# EAGLE library part 51415-001LF (library XF2M-4015-1A)
FCI PwrBlade Series, Series Number 51415, 2.54mm Pitch 2 (Power), 24 (Signal) Way 1 (Power), 4 (Signal) Row Right Angle Source: Datasheet <https://componentsearchengine.com/Datasheets/1/51415-001LF.pdf>
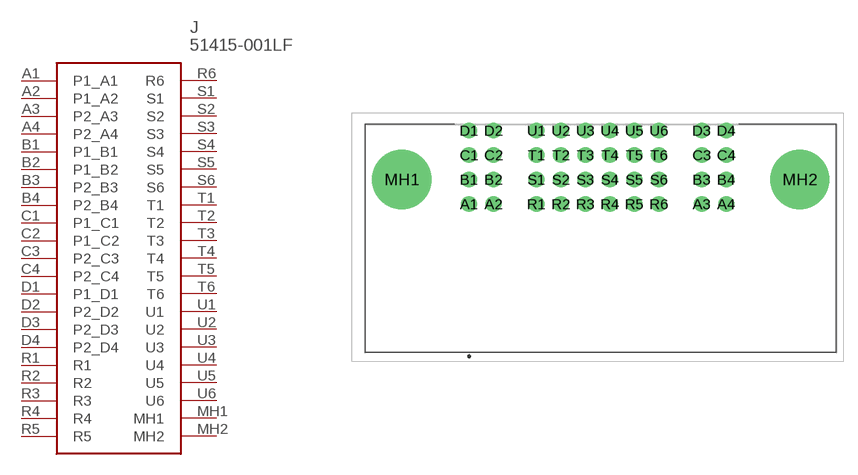
[diagram p1: symbol with the pads of 51415001LF; footprint 51415001LF]

Designator prefix J

## 51415-001LF (Description: FCI PwrBlade Series, Series Number 51415, 2.54mm Pitch 2 (Power), 24 (Signal) Way 1 (Power), 4 (Signal) Row Right Angle; Height: 14.58mm; Manufacturer_Name: Amphenol; Manufacturer_Part_Number: 51415-001LF; Mouser_Part_Number: 649-51415-001LF; Mouser_Price-Stock: https://www.mouser.com/Search/Refine.aspx?Keyword=649-51415-001LF)  [51415001LF]
A1  P1_A1
A2  P1_A2
A3  P2_A3
A4  P2_A4
B1  P1_B1
B2  P1_B2
B3  P2_B3
B4  P2_B4
C1  P1_C1
C2  P1_C2
C3  P2_C3
C4  P2_C4
D1  P1_D1
D2  P2_D2
D3  P2_D3
D4  P2_D4
MH1  MH1
MH2  MH2
R1  R1
R2  R2
R3  R3
R4  R4
R5  R5
R6  R6
S1  S1
S2  S2
S3  S3
S4  S4
S5  S5
S6  S6
T1  T1
T2  T2
T3  T3
T4  T4
T5  T5
T6  T6
U1  U1
U2  U2
U3  U3
U4  U4
U5  U5
U6  U6

## Footprint 51415001LF (pad centres in mm)
51415-001LF-3_1
drill 1.09 pad 1.635: A1 -13.65,0; A2 -11.11,0; A3 10.48,0; A4 13.02,0; B1 -13.65,2.54; B2 -11.11,2.54; B3 10.48,2.54; B4 13.02,2.54; C1 -13.65,5.08; C2 -11.11,5.08; C3 10.48,5.08; C4 13.02,5.08; D1 -13.65,7.62; D2 -11.11,7.62; D3 10.48,7.62; D4 13.02,7.62; R1 -6.66,0; R2 -4.12,0; R3 -1.58,0; R4 0.96,0; R5 3.5,0; R6 6.04,0; S1 -6.66,2.54; S2 -4.12,2.54; S3 -1.58,2.54; S4 0.96,2.54; S5 3.5,2.54; S6 6.04,2.54; T1 -6.66,5.08; T2 -4.12,5.08; T3 -1.58,5.08; T4 0.96,5.08; T5 3.5,5.08; T6 6.04,5.08; U1 -6.66,7.62; U2 -4.12,7.62; U3 -1.58,7.62; U4 0.96,7.62; U5 3.5,7.62; U6 6.04,7.62
drill 4.089 pad 6.134: MH1 -20.64,2.54; MH2 20.64,2.54